# Altium footprint library SC-61.PcbLib: 1 footprints
Each footprint in its own frame and in the unit in brackets; x right, y up, seen from the top. Pads: shape width x height; smd on the part's side, far side on the other; paste and mask are expansions set on the pad; w line width, h text height; cw(c..) or ccw(c..) is an arc to the next point about the centre after c.
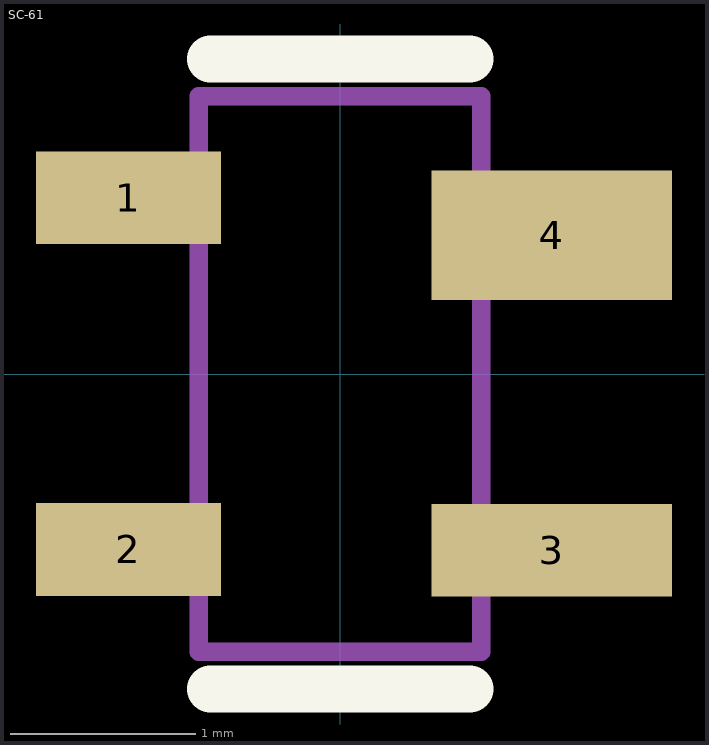
[diagram p0: the footprint, top view; thin cyan lines are the x and y axes]

## SC-61 [mm]
pads (4):
  rect 1x0.5 smd: 1(-1.143,0.953) 2(-1.143,-0.947)
  rect 1.3x0.5 smd: 3(1.143,-0.953)
  rect 1.3x0.7 smd: 4(1.143,0.75)
Top Overlay:
  lines w0.254: -0.7,-1.7 0.7,-1.7 ; -0.7,1.7 0.7,1.7
Mechanical 13:
  lines w0.1: -0.762,-1.5 0.762,-1.5 0.762,1.5 -0.762,1.5 -0.762,-1.5